# Altium footprint library ASP LEDBoard.PcbLib: 10 footprints
Each footprint in its own frame and in the unit in brackets; x right, y up, seen from the top. Pads: shape width x height; smd on the part's side, far side on the other; paste and mask are expansions set on the pad; w line width, h text height; cw(c..) or ccw(c..) is an arc to the next point about the centre after c.
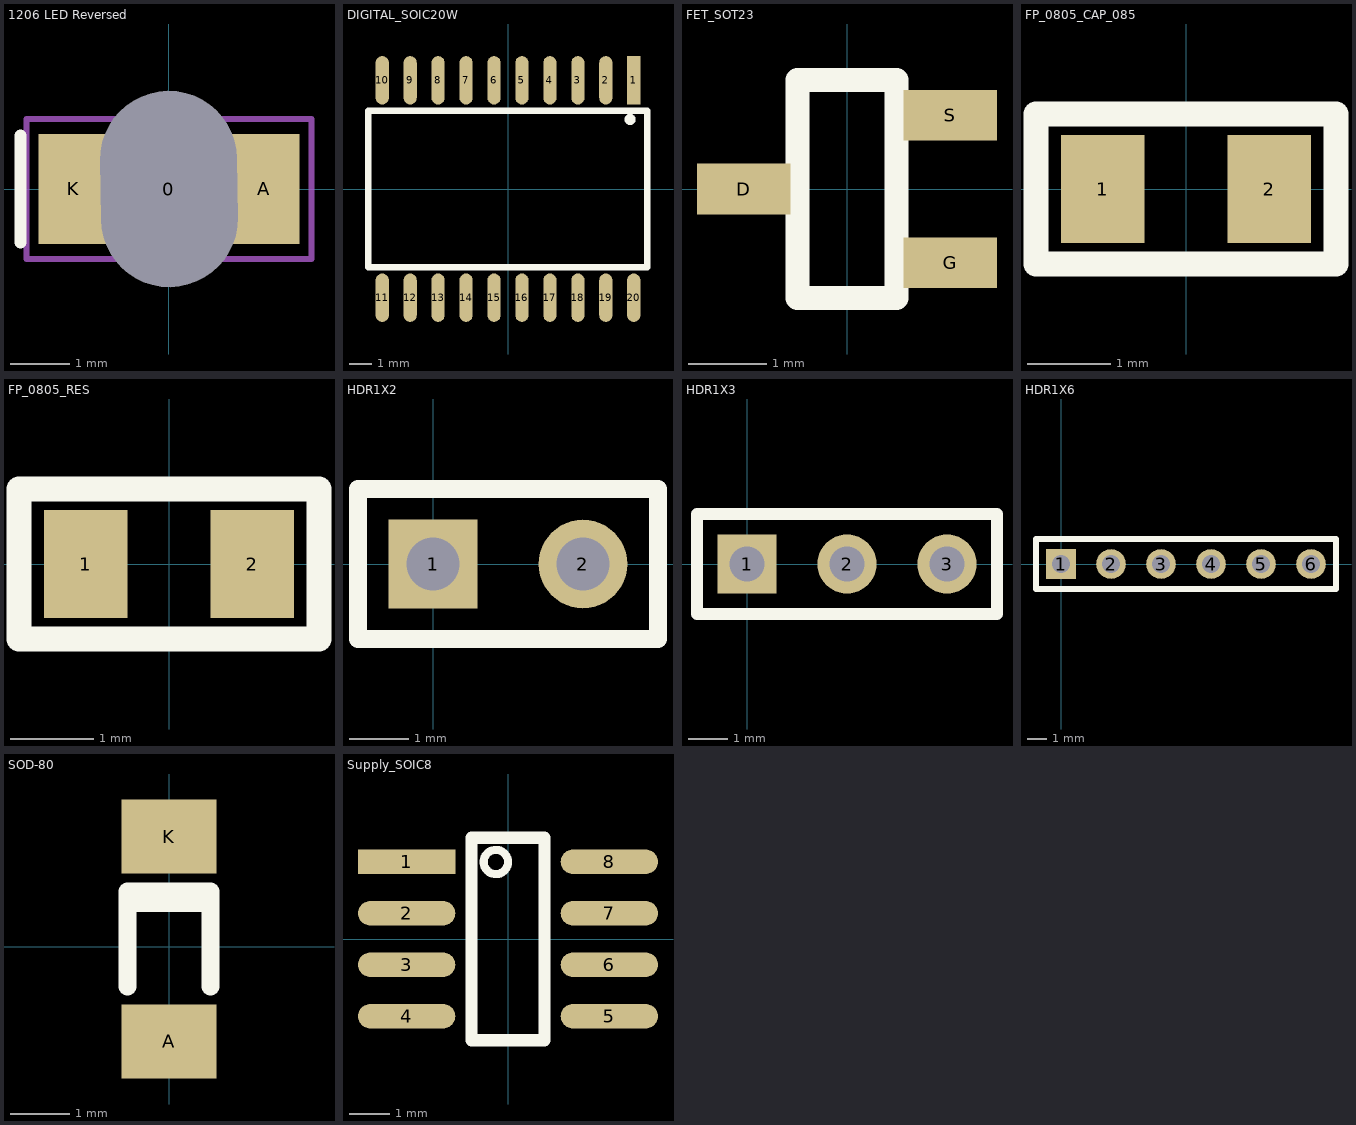
[diagram p0: the footprints below, top view; thin cyan lines are the x and y axes]

## 1206 LED Reversed [mm] "1206 Green LED"
height 0.5
pads (3):
  oct 1.524x2 hole 2.3 slot 3.3 at 90.7 deg unplated: 0(0,0)
  rect 1.2x1.85 smd: A(1.6,0) K(-1.6,0)
Top Overlay:
  lines w0.2: -2.5,-0.9 -2.5,0.9
Keep-Out Layer:
  lines w1.2: -0.4,-0.8 -0.4,0.8 0.4,0.8 0.4,-0.8 -0.4,-0.8
Mechanical 15:
  lines w0.1: -0.5,0 0.5,0 ; 0,-0.5 0,0.5 ; -2.4,-1.175 2.4,-1.175 2.4,1.175 -2.4,1.175 -2.4,-1.175
3D body: height 0, standoff -0.6, extent -1,-0.8 1,0.8
3D body: height 0.5, standoff 0, extent -1.6,-0.8 1.6,0.8

## DIGITAL_SOIC20W [mm]
height 2
pads (20):
  rect 0.6x2.2 smd: 1(5.715,4.94)
  oval 0.6x2.2 smd: 2(4.445,4.94) 3(3.175,4.94) 4(1.905,4.94) 5(0.635,4.94) 6(-0.635,4.94) 7(-1.905,4.94) 8(-3.175,4.94) 9(-4.445,4.94) 10(-5.715,4.94) 11(-5.715,-4.94) 12(-4.445,-4.94) 13(-3.175,-4.94) 14(-1.905,-4.94) 15(-0.635,-4.94) 16(0.635,-4.94) 17(1.905,-4.94) 18(3.175,-4.94) 19(4.445,-4.94) 20(5.715,-4.94)
Top Overlay:
  circle w0.25: c5.549,3.162 r0.125
  lines w0.305: -6.35,-3.556 -6.35,3.556 6.325,3.556 6.325,-3.556 -6.35,-3.556
3D body: height 2.7, standoff 0, extent -6.4,-5.15 6.4,5.15

## FET_SOT23 [mm] "SOT23-3 tok"
height 1.1
pads (3):
  rect 1.2x0.65 smd: D(-1.327,0) G(1.327,-0.95) S(1.327,0.95)
Top Overlay:
  lines w0.305: -0.635,-1.4 0.635,-1.4 0.635,1.4 -0.635,1.4 -0.635,-1.4
3D body: height 0.97, standoff -0.01, extent -1.274,-1.46 1.274,1.46

## FP_0805_CAP_085 [mm] "0805 kapacitás YAGEO 0.85mm magas"
height 0.86
pads (2):
  rect 1x1.3 smd: 1(-1,0) 2(1,0)
Top Overlay:
  lines w0.305: -1.8,-0.9 1.8,-0.9 1.8,0.9 -1.8,0.9 -1.8,-0.9
3D body: height 0.85, standoff 0, extent -1,-0.635 -0.644,0.635
3D body: height 0.85, standoff 0, extent 0.676,-0.635 1.032,0.635
3D body: height 0.85, standoff 0, extent -0.644,-0.635 0.676,0.635

## FP_0805_RES [mm] "0805 ellenállás"
height 0.5
pads (2):
  rect 1x1.3 smd: 1(-1,0) 2(1,0)
Top Overlay:
  lines w0.305: -1.8,-0.9 1.8,-0.9 1.8,0.9 -1.8,0.9 -1.8,-0.9
3D body: height 0.62, standoff 0.02, extent -1,-0.625 1,0.625

## HDR1X2 [mm] "Connector; Header; 2 Position"
pads (2):
  rect 1.5x1.5 hole 0.9: 1(0,0)
  round 1.5 hole 0.9: 2(2.54,0)
Top Overlay:
  lines w0.305: -1.27,-1.27 3.81,-1.27 3.81,1.27 -1.27,1.27 -1.27,-1.27

## HDR1X3 [mm] "Connector; Header; 3 Position"
pads (3):
  rect 1.5x1.5 hole 0.9: 1(0,0)
  round 1.5 hole 0.9: 2(2.54,0) 3(5.08,0)
Top Overlay:
  lines w0.305: -1.27,-1.27 6.35,-1.27 6.35,1.27 -1.27,1.27 -1.27,-1.27

## HDR1X6 [mm] "Connector; Header; 6 Position"
pads (6):
  rect 1.5x1.5 hole 0.9: 1(0,0)
  round 1.5 hole 0.9: 2(2.54,0) 3(5.08,0) 4(7.62,0) 5(10.16,0) 6(12.7,0)
Top Overlay:
  lines w0.305: -1.27,-1.27 13.97,-1.27 13.97,1.27 -1.27,1.27 -1.27,-1.27

## SOD-80 [mm]
height 1.5
pads (2):
  rect 1.6x1.25 smd: A(0,-1.598) K(0,1.852)
Top Overlay:
  lines w0.305: -0.7,-0.673 -0.7,0.927 0.7,0.927 0.7,-0.673 ; -0.7,0.737 0.7,0.737
3D body: height -0.37, standoff -1.91, extent -0.762,-1.549 0.777,1.803

## Supply_SOIC8 [mm]
height 1.75
pads (8):
  rect 2.4x0.6 smd: 1(-2.5,1.905)
  oval 2.4x0.6 smd: 2(-2.5,0.635) 3(-2.5,-0.635) 4(-2.5,-1.905) 5(2.5,-1.905) 6(2.5,-0.635) 7(2.5,0.635) 8(2.5,1.905)
Top Overlay:
  circle w0.2: c-0.3,1.9 r0.3
  lines w0.305: -0.9,-2.5 -0.9,2.5 0.9,2.5 0.9,-2.5 -0.9,-2.5
3D body: height 1.9, standoff 0, extent -3.028,-2.5 3.028,2.5